# Altium footprint library MyPcbLib.PcbLib: 66 footprints (part 2 of 5)
Each footprint in its own frame and in the unit in brackets; x right, y up, seen from the top. Pads: shape width x height; smd on the part's side, far side on the other; paste and mask are expansions set on the pad; w line width, h text height; cw(c..) or ccw(c..) is an arc to the next point about the centre after c.
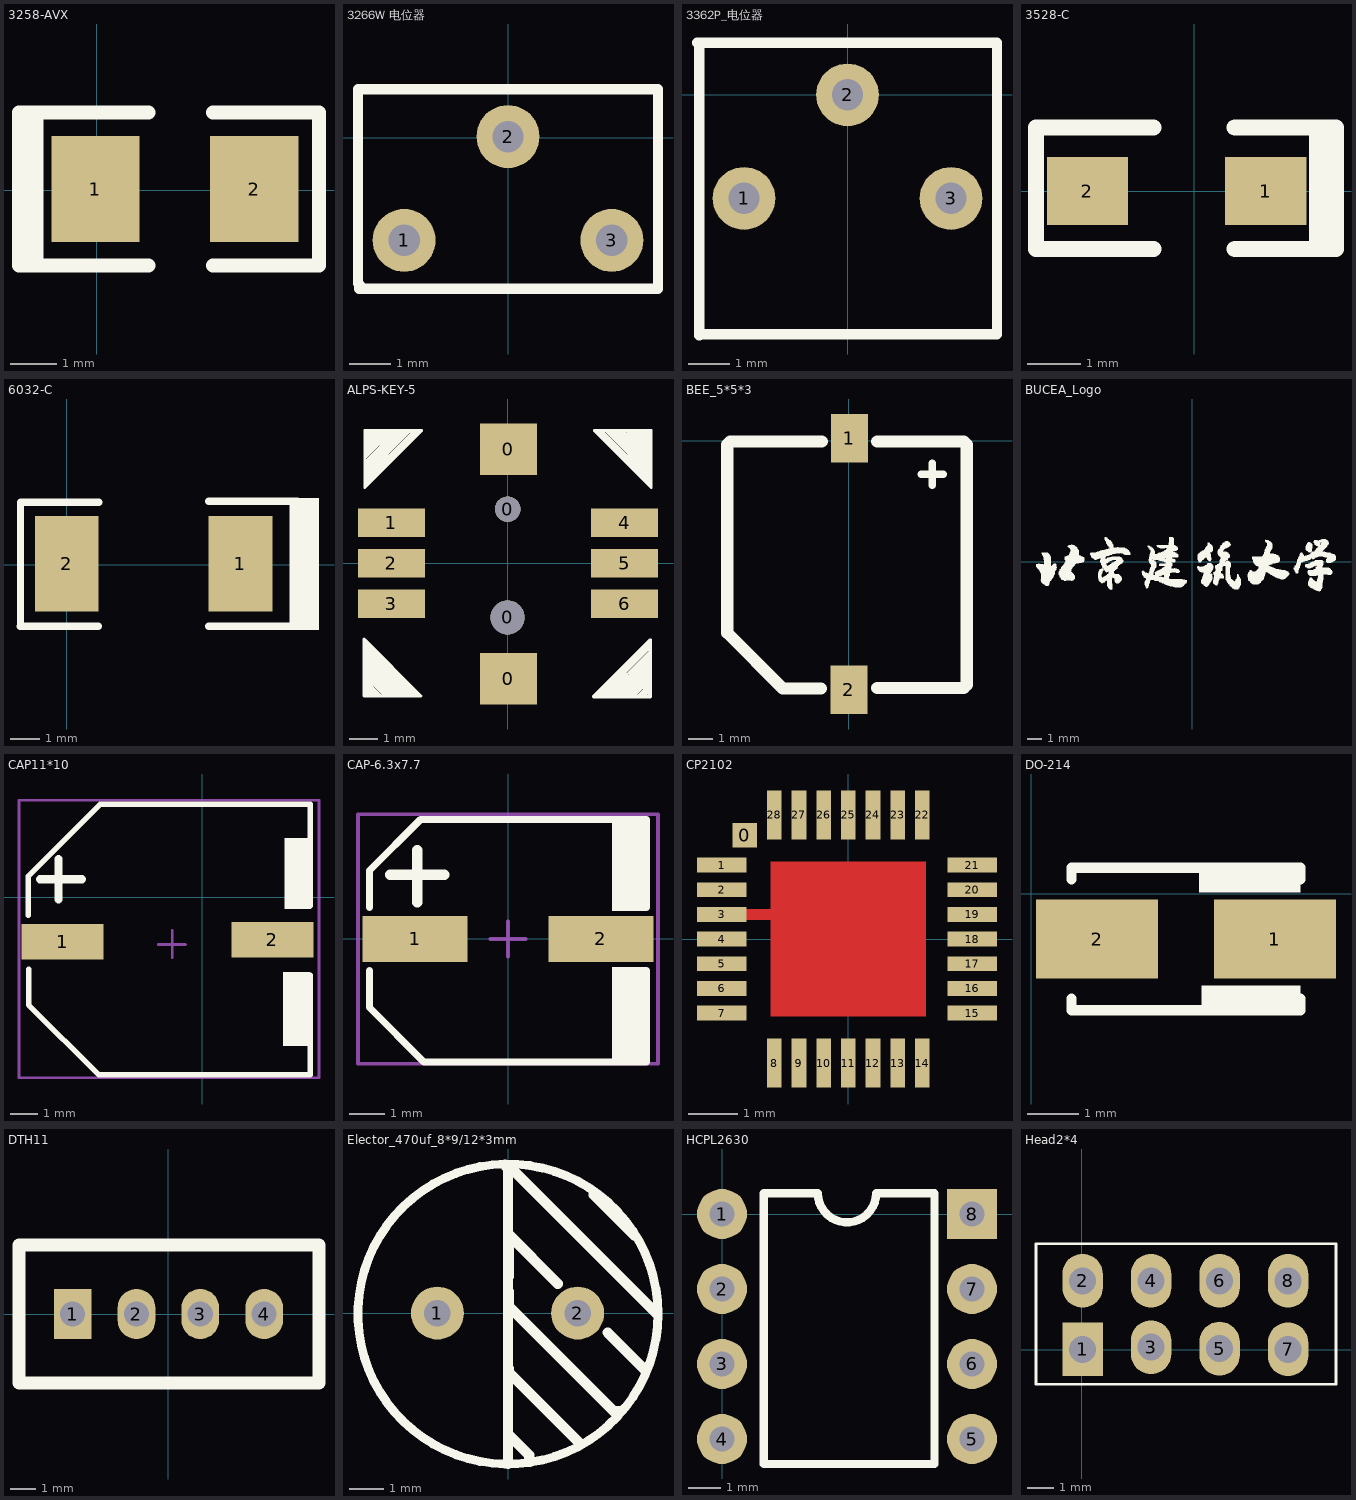
[diagram p1: the footprints below, top view; thin cyan lines are the x and y axes]

## 3258-AVX [mil]
pads (2):
  rect 75x90 smd: 1(-1,1) 2(134,1)
Top Overlay:
  lines w10: -57,-59 -57,65 ; -50,-64 -50,65
  lines w12: 44,-64 -66,-64 -66,66 44,66 ; 99,-64 189,-64 189,66 99,66
3D body: height 79.92, standoff 0, extent -10.84,-59.35 134.84,56

## 3266W 电位器 [mil]
pads (3):
  round 60 hole 30: 1(-99,-98) 2(0,1) 3(99,-98)
Top Overlay:
  lines w10: -142,-144 143,-144 143,46 -143,46 -143,-139 -140,-142

## 3362P_电位器 [mil]
pads (3):
  round 60 hole 30: 1(-99,-99) 2(0,0) 3(99,-99)
Top Overlay:
  lines w10: -144,50 143,50 143,-229 -141,-229 -142,-230 -142,47 -141,48

## 3528-C [mil]
pads (2):
  rect 60x50 smd: 1(53,0) 2(-79,0)
Top Overlay:
  lines w10: 90,-44 90,47 ; 96,-43 96,43
  lines w12: -30,-43 -117,-43 -117,47 -30,47 ; 30,-43 105,-43 105,47 30,47
3D body: height 62.99, standoff 0, extent -73.99,-32.49 52,30.5

## 6032-C [mm]
pads (2):
  rect 2.2x3.3 smd: 1(5.994,0.025) 2(-0.006,0.025)
Top Overlay:
  rectangle: 7.693,-2.265 8.709,2.305
  lines w0.254: -1.611,-2.134 1.089,-2.134 ; -1.606,-2.108 -1.606,2.158 1.094,2.158 ; 4.899,-2.134 7.825,-2.134 ; 4.899,2.184 7.952,2.184

## ALPS-KEY-5 [mm]
pads (10):
  round 1.2 hole 1.2: 0(0,-1.905)
  round 0.9 hole 0.9: 0(0,1.905)
  rect 2x1.8 smd: 0(0.025,-4.064) 0(0.025,4.013)
  rect 2.35x1 smd: 1(-4.089,1.422) 2(-4.089,0) 3(-4.089,-1.422) 4(4.115,1.422) 5(4.115,0) 6(4.115,-1.422)
Top Overlay:
  lines w0.1: -5.055,-4.547 -4.928,-4.674 ; -5.055,-4.318 -4.699,-4.674 ; -5.055,-4.191 -4.597,-4.648 -4.597,-4.674 ; -5.055,-4.089 -5.029,-4.089 -4.47,-4.648 ; -5.055,-3.835 -5.029,-3.835 -4.242,-4.623 ; -5.055,-3.581 -5.029,-3.581 -3.962,-4.648 ; -5.055,-3.073 -5.029,-3.073 -3.454,-4.648 ; -5.029,-4.648 -5.029,-4.674 ; -5.029,-4.445 -4.851,-4.623 -4.851,-4.674 ; -5.029,-3.962 -4.318,-4.674 ; -5.029,-3.708 -4.115,-4.623 -4.115,-4.648 ; -5.029,-3.454 -3.861,-4.623 -3.861,-4.648 ; -5.029,-3.327 -3.734,-4.623 ; -5.029,-3.2 -3.581,-4.648 ; -5.029,-2.972 -4.978,-2.972 -4.978,-3.023 ; -5.029,-2.819 -3.226,-4.623 -3.226,-4.648 ; -5.029,-2.743 -5.029,-4.674 ; -5.029,-2.692 -3.061,-4.661 -3.073,-4.674 -5.029,-4.674 ; -5.029,3.327 -5.004,3.327 ; -5.029,3.937 -4.318,4.648 ; -5.029,4.216 -5.004,4.216 -4.547,4.674 ; -5.029,4.318 -4.674,4.674 ; -5.029,4.47 -4.978,4.47 -4.801,4.648 ; -5.029,4.547 -4.902,4.674 ; -5.004,-2.972 -3.353,-4.623 -3.327,-4.623 -3.327,-4.648 ; -5.004,2.845 -4.978,2.845 -3.175,4.648 ; -5.004,2.946 -4.978,2.946 -4.978,2.972 -3.327,4.623 ; -5.004,3.073 -3.429,4.648 -3.429,4.674 ; -5.004,3.2 -3.556,4.648 ; -5.004,3.48 -4.978,3.48 -3.81,4.648 ; -5.004,3.581 -3.937,4.648 -3.937,4.674 ; -5.004,3.734 -4.978,3.734 -4.064,4.648 ; -5.004,4.089 -4.445,4.648 -4.445,4.674 ; -4.978,3.353 -3.683,4.648 ; -4.978,3.861 -4.191,4.648 -4.191,4.674 ; -3.708,-4.674 -3.708,-4.648 ; -3.378,4.597 -3.327,4.597 -3.327,4.648 ; 3.023,-4.674 5.004,-2.692 5.004,-4.648 5.029,-4.674 3.048,-4.674 ; 3.175,-4.674 4.978,-2.87 5.004,-2.87 ; 3.226,4.648 3.226,4.623 5.029,2.819 ; 3.327,-4.674 3.327,-4.623 3.378,-4.623 ; 3.327,-4.648 4.978,-2.997 4.978,-2.972 5.004,-2.972 ; 3.327,4.648 3.327,4.623 3.353,4.623 5.004,2.972 ; 3.429,-4.699 3.429,-4.674 5.004,-3.099 ; 3.454,4.648 5.029,3.073 5.055,3.073 ; 3.556,-4.674 5.004,-3.226 ; 3.581,4.648 5.029,3.2 ; 3.683,-4.674 4.978,-3.378 ; 3.708,4.648 3.708,4.674 ; 3.734,4.623 5.029,3.327 ; 3.81,-4.674 4.978,-3.505 5.004,-3.505 ; 3.861,4.648 3.861,4.623 5.029,3.454 ; 3.937,-4.699 3.937,-4.674 5.004,-3.607 ; 3.962,4.648 5.029,3.581 5.055,3.581 ; 4.064,-4.674 4.978,-3.759 5.004,-3.759 ; 4.115,4.648 4.115,4.623 5.029,3.708 ; 4.191,-4.699 4.191,-4.674 4.978,-3.886 ; 4.242,4.623 5.029,3.835 5.055,3.835 ; 4.318,-4.674 5.029,-3.962 ; 4.318,4.674 5.029,3.962 ; 4.445,-4.699 4.445,-4.674 5.004,-4.115 ; 4.47,4.648 5.029,4.089 5.055,4.089 ; 4.547,-4.699 5.004,-4.242 5.029,-4.242 ; 4.597,4.674 4.597,4.648 5.055,4.191 ; 4.674,-4.699 5.029,-4.343 ; 4.699,4.674 5.055,4.318 ; 4.801,-4.674 4.978,-4.496 5.029,-4.496 ; 4.851,4.674 4.851,4.623 5.029,4.445 ; 4.902,-4.699 5.029,-4.572 ; 4.928,4.674 5.055,4.547 ; 4.978,3.023 4.978,2.972 5.029,2.972 ; 5.004,-3.353 5.029,-3.353 ; 3.048,4.674 5.055,4.674 5.055,2.667 3.048,4.674 ; 3.048,4.674 4.978,2.743 5.004,2.743 5.004,4.674 3.048,4.674 ; -5.055,-4.674 -3.048,-4.674 -5.055,-2.667 -5.055,-4.674 ; -5.029,2.667 -3.023,4.674 -5.029,4.674 -5.029,2.667 ; 3.023,-4.699 5.029,-4.699 5.029,-2.692 3.023,-4.699

## BEE_5*5*3 [mil]
pads (2):
  rect 60x78.74 all layers, no hole: 1(1,4) 2(0,-403)
Top Overlay:
  lines w11.81: 117,-54 153,-54 ; 135,-72 135,-36
  lines w19.68: -193,-2 -197,-6 -197,-311 -107,-401 -45,-401 ; -192,-1 -44,-1 ; 46,-400 186,-400 191,-395 191,-6 187,-2 ; 46,-1 186,-1

## BUCEA_Logo [mm]
Top Overlay:
  drawing of 1496 lines, arcs and shapes, not listed
Top Solder:
  lines w0.025: -10.744,0.66 -10.338,0.66 ; -10.719,0.686 -10.439,0.686 ; -10.719,0.711 -10.566,0.711

## CAP11*10 [mm]
pads (2):
  rect 3x1.3 smd: 1(-5.105,-1.626) 2(2.565,-1.549)
Top Overlay:
  rectangle: 2.954,-5.442 3.937,-2.743
  rectangle: 3.005,-0.432 3.988,2.168
  lines w0.2: -6.375,-0.66 -6.375,0.762 -3.737,3.4 3.95,3.4 3.95,-0.305 ; -6.35,-2.642 -6.35,-3.937 -3.785,-6.502 3.95,-6.502 3.95,-2.845
  lines w0.3: -5.942,0.662 -4.405,0.662 ; -5.258,-0.085 -5.258,1.397
Mechanical 15:
  lines w0.1: -1.61,-1.727 -0.61,-1.727 ; -1.092,-2.21 -1.092,-1.21 ; -6.706,-6.604 4.275,-6.604 4.275,3.55 -6.706,3.55 -6.706,-6.604
3D body: height 6.1, standoff 0, extent -3.903,-4.377 1.397,0.923

## CAP-6.3x7.7 [mm]
pads (2):
  rect 3x1.3 smd: 1(-2.65,0) 2(2.65,0)
Top Overlay:
  rectangle: 2.967,0.8 3.95,3.4
  rectangle: 2.967,-3.5 3.95,-0.801
  lines w0.2: -3.95,-0.9 -3.95,-1.95 -2.4,-3.5 3.95,-3.5 3.95,-0.9 ; -3.95,0.9 -3.95,1.95 -2.5,3.4 3.95,3.4 3.95,0.9
  lines w0.3: -3.351,1.83 -1.814,1.83 ; -2.583,1.043 -2.583,2.525
Mechanical 15:
  lines w0.1: -0.5,0 0.5,0 ; 0,-0.5 0,0.5 ; -4.275,-3.55 -4.275,3.55 4.275,3.55 4.275,-3.55 -4.275,-3.55
3D body: height 6.1, standoff 0, extent -2.95,-2.76 2.35,2.54

## CP2102 [mm]
height 3
pads (29):
  rect 0.5x0.5 smd: 0(-2.1,2.1)
  rect 1x0.3 smd: 1(-2.565,1.499) 2(-2.565,0.999) 3(-2.565,0.499) 4(-2.565,-0.001) 5(-2.565,-0.501) 6(-2.565,-1.001) 7(-2.565,-1.501) 15(2.515,-1.501) 16(2.515,-1.001) 17(2.515,-0.501) 18(2.515,-0.001) 19(2.515,0.499) 20(2.515,0.999) 21(2.515,1.499)
  rect 0.3x1 smd: 8(-1.499,-2.515) 9(-0.999,-2.515) 10(-0.499,-2.515) 11(0.001,-2.515) 12(0.501,-2.515) 13(1.001,-2.515) 14(1.501,-2.515) 22(1.501,2.515) 23(1.001,2.515) 24(0.501,2.515) 25(0.001,2.515) 26(-0.499,2.515) 27(-0.999,2.515) 28(-1.499,2.515)
Top Layer:
  rectangle: -3.023,0.381 -1.118,0.61
  rectangle: -1.575,-1.575 1.575,1.575

## DO-214 [mm]
pads (2):
  rect 2.4x1.55 smd: 1(4.798,-0.889) 2(1.298,-0.889)
Top Overlay:
  rectangle: 3.353,-2.289 5.298,-1.803
  rectangle: 3.302,0.025 5.298,0.511
  lines w0.2: 0.798,-2.064 0.798,-2.289 5.298,-2.289 5.298,-2.064 ; 0.798,0.286 0.798,0.511 5.298,0.511 5.298,0.286
3D body: height 2.4, standoff 0, extent 0.721,-2.277 5.321,0.423

## DTH11 [mm]
height 15
pads (4):
  rect 1.5x2 hole 1: 1(-3.81,0)
  oval 1.5x2 hole 1: 2(-1.27,0) 3(1.27,0) 4(3.81,0)
Top Overlay:
  lines w0.508: -5.944,-2.75 -5.944,2.75 5.994,2.75 5.994,-2.75 -5.944,-2.75

## Elector_470uf_8*9/12*3mm [mil]
pads (2):
  round 60 hole 30: 1(-80,0) 2(79,0)
Top Overlay:
  circle w10: c0,-1 r170
  lines w11.81: -2,166 2,166 168,0 ; 0,-171 0,167 ; 0,88 2,88 ; 0,96 0,90 56.5,33.5 ; 1,-138 24,-161 24,-165 ; 1,-63 1,-67 82,-148 ; 1,24 1,8 120,-111 128,-111 ; 1,42 1,88 ; 97,135 97,134 143,88 ; 113,-22 154,-63

## HCPL2630 [mil]
pads (8):
  round 60 hole 30: 1(0,0) 2(0,-90) 3(0,-180) 4(0,-270) 5(300,-270) 6(300,-180) 7(300,-90)
  rect 60x60 hole 30: 8(300,0)
Top Overlay:
  lines w10: 50,-300 255,-300 255,25 185,25 cw(c150,25) 115,25 50,25 50,-300

## Head2*4 [mm]
height 12
pads (8):
  rect 1.5x2 hole 1: 1(0.025,0.025)
  oval 1.5x2 hole 1: 2(0.025,2.565) 3(2.565,0.102) 4(2.565,2.565) 5(5.105,0.051) 6(5.105,2.565) 7(7.645,0.025) 8(7.645,2.565)
Top Overlay:
  lines w0.1: -1.702,-1.27 9.423,-1.27 9.423,3.937 -1.702,3.937 -1.702,-1.27